# EAGLE library part S70KL1282DPBHI020 (library S70KL1282DPBHI020)
DRAM HyperRAM Source: Datasheet <https://www.cypress.com/file/501841/download>
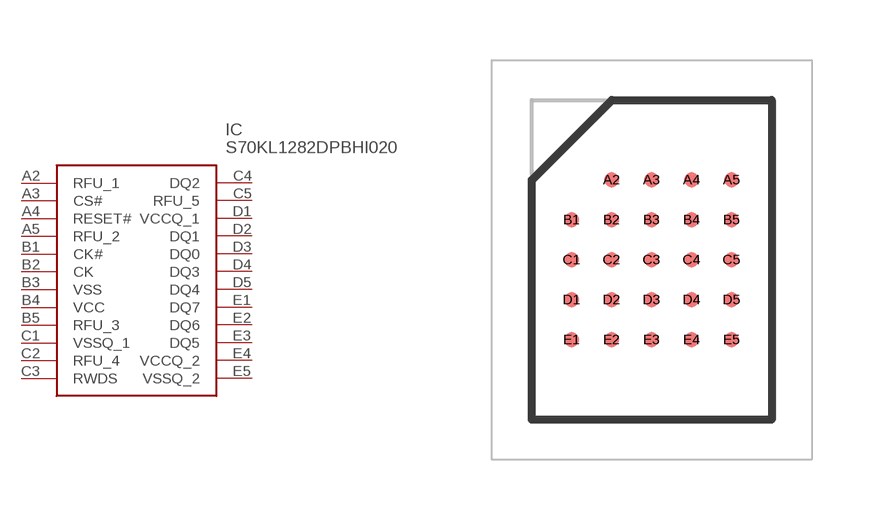
[diagram p0: symbol with the pads of BGA24C100P5X5_600X800X100; footprint BGA24C100P5X5_600X800X100]

Designator prefix IC

## S70KL1282DPBHI020 (Description: DRAM HyperRAM; Height: 1mm; Manufacturer_Name: Infineon; Manufacturer_Part_Number: S70KL1282DPBHI020; Mouser_Part_Number: 727-70KL1282DPBHI020; Mouser_Price-Stock: https://www.mouser.co.uk/ProductDetail/Infineon-Technologies/S70KL1282DPBHI020?qs=DPoM0jnrROVgAEZ0o2TpIw%3D%3D)  [BGA24C100P5X5_600X800X100]
A2  RFU_1
A3  CS#
A4  RESET#
A5  RFU_2
B1  CK#
B2  CK
B3  VSS
B4  VCC
B5  RFU_3
C1  VSSQ_1
C2  RFU_4
C3  RWDS
C4  DQ2
C5  RFU_5
D1  VCCQ_1
D2  DQ1
D3  DQ0
D4  DQ3
D5  DQ4
E1  DQ7
E2  DQ6
E3  DQ5
E4  VCCQ_2
E5  VSSQ_2

## Footprint BGA24C100P5X5_600X800X100 (pad centres in mm)
24-Ball BGA 8.0 mm × 6.0 mm × 1.0 mm (E2A024))
smd 0.37 x 0.37: A2 -1,2; A3 0,2; A4 1,2; A5 2,2; B1 -2,1; B2 -1,1; B3 0,1; B4 1,1; B5 2,1; C1 -2,0; C2 -1,0; C3 0,0; C4 1,0; C5 2,0; D1 -2,-1; D2 -1,-1; D3 0,-1; D4 1,-1; D5 2,-1; E1 -2,-2; E2 -1,-2; E3 0,-2; E4 1,-2; E5 2,-2